# Altium footprint library PcbLib.PcbLib: 34 footprints (part 1 of 3)
Each footprint in its own frame and in the unit in brackets; x right, y up, seen from the top. Pads: shape width x height; smd on the part's side, far side on the other; paste and mask are expansions set on the pad; w line width, h text height; cw(c..) or ccw(c..) is an arc to the next point about the centre after c.
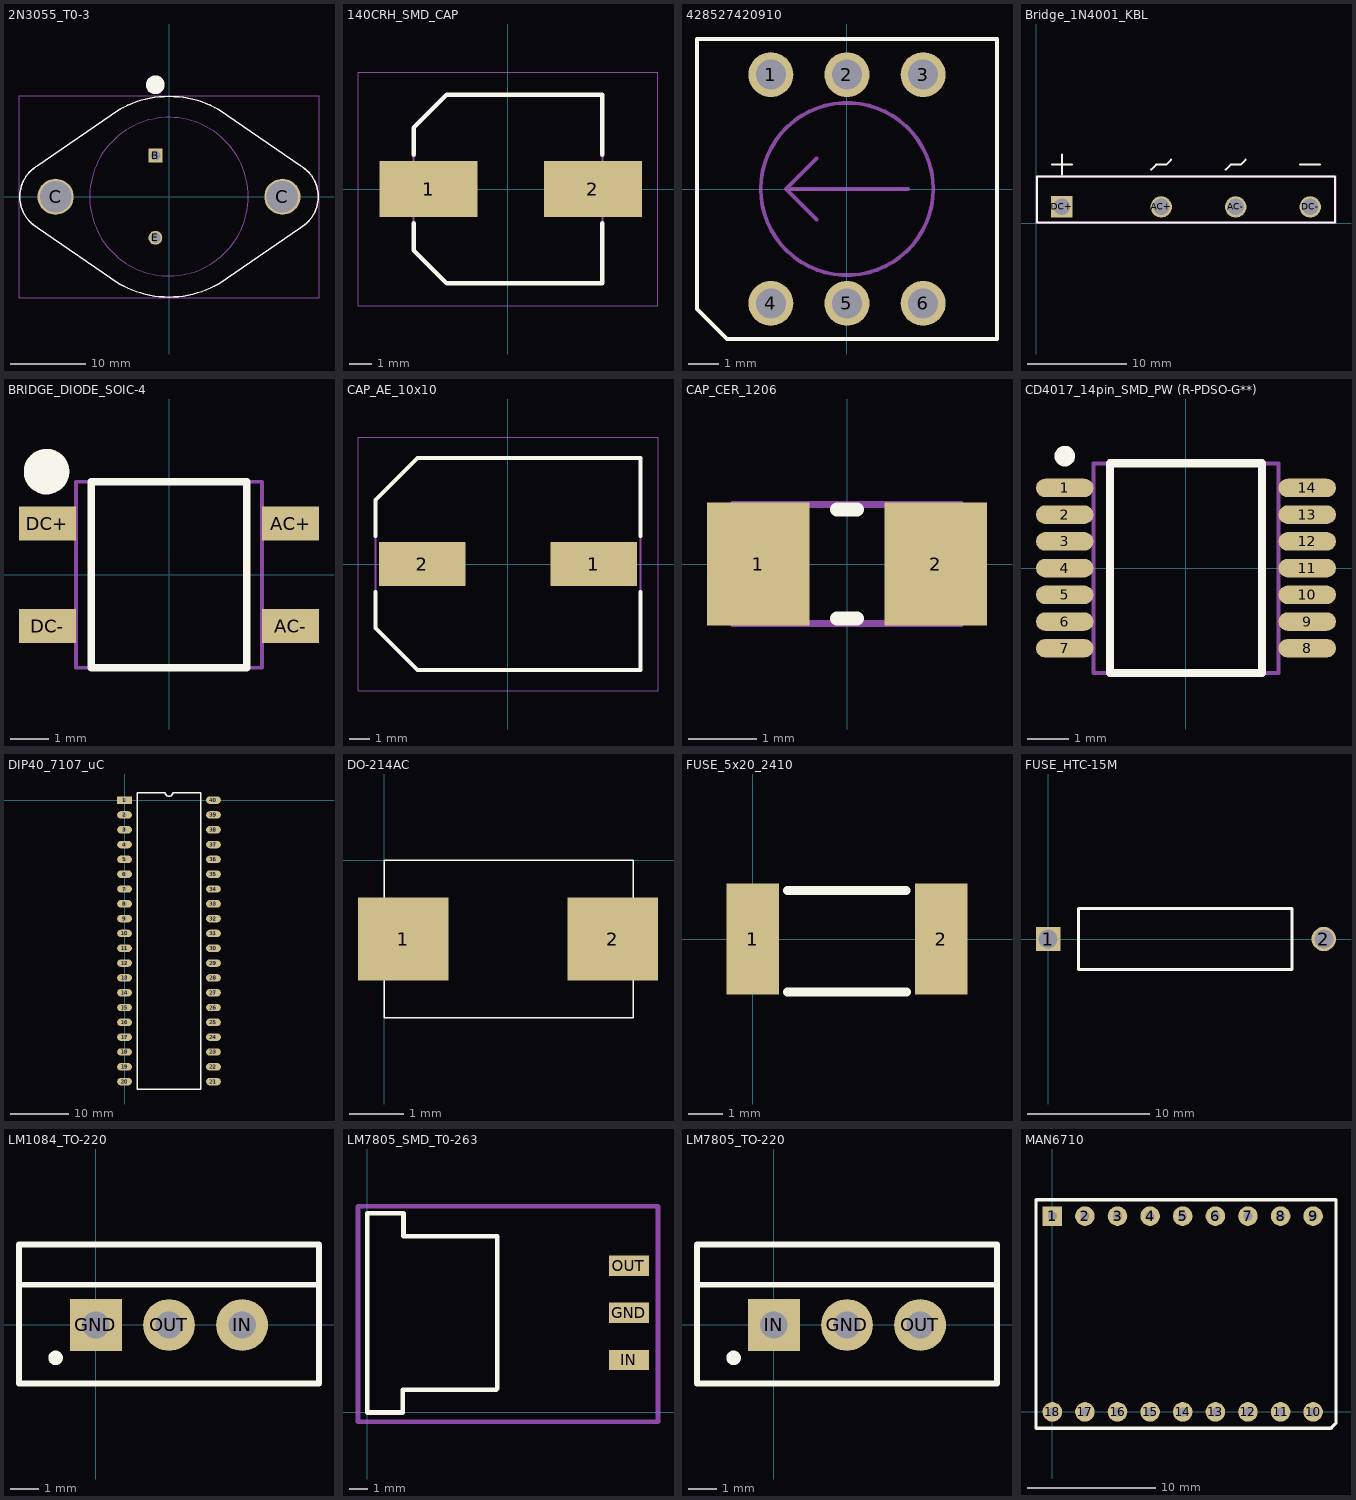
[diagram p0: the footprints below, top view; thin cyan lines are the x and y axes]

## 2N3055_T0-3 [mm] "TO-204, Pin Spacing 10.92mm, Lead Dia. 1.09 mm (max)"
height 8.51
pads (4):
  rect 1.85x1.85 hole 1.35: B(-1.815,5.46)
  round 4.8 hole 4.19 mask+0.102: C(-15.075,0) C(15.075,0)
  round 1.85 hole 1.35: E(-1.815,-5.46)
Top Overlay:
  circle w1.25: c-1.815,14.875 r0.625
  lines w0.2: -19.845,0 ccw(c-15.075,0) -17.46,-4.131 -6.667,-11.548 ccw(c0,0) 6.668,-11.548 17.46,-4.131 ccw(c15.075,0) 19.845,0 ccw(c15.075,0) 17.46,4.131 6.667,11.548 ccw(c0,0) -6.668,11.548 -17.46,4.131 ccw(c-15.075,0) -19.845,0
Mechanical 13:
  circle w0.1: c0,0 r10.54
  lines w0.1: -17.981,-3.791 -6.475,-11.681 ; -17.811,3.907 -6.475,11.681 ; -17.46,-4.131 cw(c-15.075,0) -19.845,0 cw(c-15.075,0) -17.46,4.131 ; -6.667,-11.548 ccw(c0,0) 6.668,-11.548 ; -6.668,11.548 cw(c0,0) 6.667,11.548 ; 6.475,-11.681 17.811,-3.907 ; 6.475,11.681 17.981,3.791 ; 17.46,-4.131 ccw(c15.075,0) 19.845,0 ccw(c15.075,0) 17.46,4.131 ; 12.98,0 cw(c15.075,0) 17.17,0 cw(c15.075,0) 12.98,0
Mechanical 15:
  lines w0.05: -19.939,-13.45 19.939,-13.45 19.939,13.45 -19.939,13.45 -19.939,-13.45
3D body: height 8.51, standoff 1.77, extent -10.539,-10.539 10.54,10.54
3D body: height 1.77, standoff 0, extent -19.845,0.001 19.844,13.334
3D body: height 1.77, standoff 0, extent -19.844,-13.334 19.845,-0.001

## 140CRH_SMD_CAP [mm] "Aluminum Electrolytic Capacitor, Body 8,50x8,50x6,30mm, IPC Low Density"
height 6.3
pads (2):
  rect 4.4x2.5 smd: 1(-3.575,0) 2(3.825,0)
Top Overlay:
  lines w0.2: -4.25,-1.55 -4.25,-2.75 -2.75,-4.25 4.25,-4.25 4.25,-1.55 ; -4.25,1.55 -4.25,2.75 -2.75,4.25 4.25,4.25 4.25,1.55
Mechanical 13:
  lines w0.1: -4.25,-2.75 -4.25,2.75 -2.75,4.25 4.25,4.25 4.25,-4.25 -2.75,-4.25 -4.25,-2.75
Mechanical 15:
  lines w0.05: -6.75,-5.25 6.75,-5.25 6.75,5.25 -6.75,5.25 -6.75,-5.25
3D body: height 6.3, standoff 0, extent -2.25,-2.25 2.25,2.243
3D body: height 2.1, standoff 0, extent -4.25,-4.25 4.25,4.25

## 428527420910 [mm] "10 position, 2.54mm Pitch, Horizontal type, THT, Round Shaft type, dark grey actuator, real code, Tube"
height 13.8
pads (6):
  round 1.5 hole 1: 1(-2.54,3.81) 2(0,3.81) 3(2.54,3.81) 4(-2.54,-3.81) 5(0,-3.81) 6(2.54,-3.81)
Top Overlay:
  lines w0.127: -5,5 5,5 ; -5,5 5,5 ; -5,5 -5,-4 -4,-5 5,-5 ; 5,-5 5,5 ; 5,-5 5,5
Mechanical 13:
  circle w0.127: c0,0 r2.874
  lines w0.127: -1.016,-1.016 -2.032,0 ; -1.016,1.016 -2.032,0 ; 2.032,0 -2.032,0
3D body "42852742091x_10_Pos.stp": height 13.81, standoff -3.79, extent -5,-5 5,5

## Bridge_1N4001_KBL [mm] "Bridge_1N4001_KBL"
pads (4):
  round 2.15 hole 1.65: AC+(12.573,1.651) AC-(20.073,1.651) DC-(27.573,1.651)
  rect 2.15x2.15 hole 1.65: DC+(2.573,1.651)
Top Overlay:
  lines w0.2: 1.573,5.901 3.573,5.901 ; 2.573,4.901 2.573,6.901 ; 11.573,5.401 12.073,5.901 13.073,5.901 13.573,6.401 ; 19.073,5.401 19.573,5.901 20.573,5.901 21.073,6.401 ; 26.573,5.901 28.573,5.901 ; 0.073,0.101 0.073,4.701 30.073,4.701 30.073,0.101 0.073,0.101
Mechanical 13:
  lines w0.1: 0.073,0.101 30.073,0.101 30.073,4.701 0.073,4.701 0.073,0.101
Mechanical 15:
  lines w0.05: -0.027,0.001 -0.027,4.801 30.173,4.801 30.173,0.001 -0.027,0.001
3D body: height 13.5, standoff 13.2, extent 0.073,1.101 30.073,4.701
3D body: height 4.01, standoff -13.49, extent 26.473,1.301 28.673,2.001
3D body: height 4.01, standoff -13.49, extent 18.973,1.301 21.173,2.001
3D body: height 4.01, standoff -13.49, extent 11.473,1.301 13.673,2.001
3D body: height 4.01, standoff -13.49, extent 1.473,1.301 3.673,2.001
3D body "1.step": height 24.51, standoff 13.51, extent 0.073,1.101 30.073,4.701
3D body: height 13.21, standoff 4.21, extent 0.073,0.101 30.073,4.701
3D body: height 4.2, standoff 4, extent 1.473,1.301 3.673,2.001
3D body: height 4.2, standoff 4, extent 11.473,1.301 13.673,2.001
3D body: height 4.2, standoff 4, extent 18.973,1.301 21.173,2.001
3D body: height 4.2, standoff 4, extent 26.473,1.301 28.673,2.001

## BRIDGE_DIODE_SOIC-4 [mm] "BRIDGE_DIODE_SOIC-4"
height 2.65
pads (4):
  rect 1.5x0.9 smd: AC+(3.2,1.35) AC-(3.2,-1.35) DC+(-3.2,1.35) DC-(-3.2,-1.35)
Top Overlay:
  circle w0.6: c-3.226,2.718 r0.3
  lines w0.2: -2.05,-2.45 2.05,-2.45 2.05,2.45 -2.05,2.45 -2.05,-2.45
Mechanical 13:
  lines w0.1: -2.45,-2.45 2.45,-2.45 2.45,2.45 -2.45,2.45 -2.45,-2.45
3D body: height 2.65, standoff 0.1, extent -2.45,-2.45 2.45,2.45

## CAP_AE_10x10 [mm] "Aluminum Electrolytic Capacitor, Body 13,00x10,40x6,30mm, IPC Low Density"
height 6.3
pads (2):
  rect 4.25x2.15 smd: 1(4.2,0) 2(-4.2,0)
Top Overlay:
  lines w0.2: -6.5,-1.375 -6.5,-3.138 -4.437,-5.2 6.5,-5.2 6.5,-1.375 ; -6.5,1.375 -6.5,3.137 -4.437,5.2 6.5,5.2 6.5,1.375
Mechanical 13:
  lines w0.1: -6.5,-3.138 -4.437,-5.2 6.5,-5.2 6.5,5.2 -4.437,5.2 -6.5,3.137 -6.5,-3.138
Mechanical 15:
  lines w0.05: -7.35,-6.2 -7.35,6.2 7.35,6.2 7.35,-6.2 -7.35,-6.2
3D body: height 2.1, standoff 0, extent -6.5,-5.2 6.5,5.2
3D body: height 6.3, standoff 0, extent -4,-4 4,3.994

## CAP_CER_1206 [mm] "Chip Capacitor, 2-Leads, Body 3,20x1,60mm, IPC Medium Density"
height 0.6
pads (2):
  rect 1.5x1.8 smd: 1(-1.3,0) 2(1.3,0)
Top Overlay:
  lines w0.2: -0.15,-0.8 0.15,-0.8 ; -0.15,0.8 0.15,0.8
Mechanical 13:
  lines w0.1: -1.675,-0.875 -1.675,0.875 1.675,0.875 1.675,-0.875 -1.675,-0.875
3D body: height 0.6, standoff 0, extent -0.775,-0.875 0.775,0.875
3D body: height 0.6, standoff 0, extent -1.675,-0.875 -0.775,0.875
3D body: height 0.6, standoff 0, extent 0.775,-0.875 1.675,0.875

## CD4017_14pin_SMD_PW (R-PDSO-G**) [mm] "CD4017_14pin_SMD_PW (R-PDSO-G**)"
height 2.65
pads (14):
  oval 1.4x0.45 smd: 1(-2.95,1.95) 2(-2.95,1.3) 3(-2.95,0.65) 4(-2.95,0) 5(-2.95,-0.65) 6(-2.95,-1.3) 7(-2.95,-1.95) 8(2.95,-1.95) 9(2.95,-1.3) 10(2.95,-0.65) 11(2.95,0) 12(2.95,0.65) 13(2.95,1.3) 14(2.95,1.95)
Top Overlay:
  circle w0.25: c-2.95,2.725 r0.125
  lines w0.2: -1.85,-2.55 1.85,-2.55 1.85,2.55 -1.85,2.55 -1.85,-2.55
Mechanical 13:
  lines w0.1: -2.25,-2.55 2.25,-2.55 2.25,2.55 -2.25,2.55 -2.25,-2.55
3D body: height 2.65, standoff 0.1, extent -2.25,-2.55 2.25,2.55

## DIP40_7107_uC [mm]
pads (40):
  rect 2.54x1.27 hole 0.7: 1(0,0)
  oval 2.54x1.27 hole 0.7: 2(0,-2.54) 3(0,-5.08) 4(0,-7.62) 5(0,-10.16) 6(0,-12.7) 7(0,-15.24) 8(0,-17.78) 9(0,-20.32) 10(0,-22.86) 11(0,-25.4) 12(0,-27.94) 13(0,-30.48) 14(0,-33.02) 15(0,-35.56) 16(0,-38.1) 17(0,-40.64) 18(0,-43.18) 19(0,-45.72) 20(0,-48.26) 21(15.24,-48.26) 22(15.24,-45.72) 23(15.24,-43.18) 24(15.24,-40.64) 25(15.24,-38.1) 26(15.24,-35.56) 27(15.24,-33.02) 28(15.24,-30.48) 29(15.24,-27.94) 30(15.24,-25.4) 31(15.24,-22.86) 32(15.24,-20.32) 33(15.24,-17.78) 34(15.24,-15.24) 35(15.24,-12.7) 36(15.24,-10.16) 37(15.24,-7.62) 38(15.24,-5.08) 39(15.24,-2.54) 40(15.24,0)
Top Overlay:
  lines w0.254: 2.159,-49.53 13.081,-49.53 13.081,1.27 8.255,1.27 cw(c7.62,1.27) 6.985,1.27 2.159,1.27 2.159,-49.53

## DO-214AC [mil] "Diodo DO-214AC para puente de diodos"
pads (2):
  rect 65.75x60 smd: 1(14,-57) 2(166,-57)
Top Overlay:
  lines w1: 0,-114 181,-114 181,0 0,0 0,-114

## FUSE_5x20_2410 [mm] "FUSE_5x20_2410"
pads (2):
  rect 1.5x3.2 smd: 1(0,0) 2(5.41,0)
Top Overlay:
  lines w0.254: 0.991,-1.524 4.42,-1.524 ; 0.991,1.397 4.394,1.397

## FUSE_HTC-15M [mm]
pads (2):
  rect 2x2 hole 1.55: 1(0,0)
  round 2 hole 1.55: 2(22.6,0)
Top Overlay:
  lines w0.254: 2.5,-2.5 2.5,2.5 20,2.5 20,-2.5 2.5,-2.5

## LM1084_TO-220 [mm] "LM1084_TO-220"
pads (3):
  rect 1.8x1.8 hole 0.95: GND(0,0)
  round 1.8 hole 0.95: IN(5.08,0) OUT(2.54,0)
Top Overlay:
  circle w0.254: c-1.397,-1.143 r0.127
  lines w0.2: -2.603,1.397 -1.984,1.397 -0.619,1.397 0.127,1.397 7.683,1.397 ; -2.667,-2.032 -2.667,2.794 7.747,2.794 7.747,-2.032 -2.667,-2.032
3D body "User Library-TO-220-4.STEP": height 22.06, standoff -6.74, extent -2.56,-1.905 7.64,2.595

## LM7805_SMD_T0-263 [mm] "LM7805_SMD_T0-263"
pads (3):
  rect 2.18x1.09 smd: GND(14.175,5.4) IN(14.175,2.85) OUT(14.175,7.95)
Top Overlay:
  lines w0.254: 0,10.8 0,0 1.91,0 1.91,1.235 6.99,1.235 ; 0.025,10.795 1.935,10.795 ; 1.956,9.55 1.956,10.785 ; 1.961,9.55 7.041,9.55 7.041,1.286
Mechanical 1:
  lines w0.254: -0.508,-0.508 15.748,-0.508 15.748,11.176 -0.508,11.176 -0.508,-0.508

## LM7805_TO-220 [mm] "LM7805_TO-220"
pads (3):
  round 1.8 hole 0.95: GND(2.54,0) OUT(5.08,0)
  rect 1.8x1.8 hole 0.95: IN(0,0)
Top Overlay:
  circle w0.254: c-1.397,-1.143 r0.127
  lines w0.2: -2.603,1.397 -1.984,1.397 -0.619,1.397 0.127,1.397 7.683,1.397 ; -2.667,-2.032 7.747,-2.032 7.747,2.794 -2.667,2.794 -2.667,-2.032
3D body "User Library-TO-220-4.STEP": height 22.06, standoff -6.74, extent -2.56,-1.905 7.64,2.595

## MAN6710 [mil]
pads (18):
  rect 60x60 hole 27.56: 1(0,600)
  round 60 hole 27.56: 2(100,600) 3(200,600) 4(300,600) 5(400,600) 6(500,600) 7(600,600) 8(700,600) 9(800,600) 10(800,0) 11(700,0) 12(600,0) 13(500,0) 14(400,0) 15(300,0) 16(200,0) 17(100,0) 18(0,0)
Top Overlay:
  lines w10: -50,-50 -50,650 870,650 870,-35 866.25,-38.75 860.62,-44.38 858.75,-46.25 855,-50 -25,-50 -50,-50